# Altium schematic symbol library BJT.SchLib: 1 symbol
Pins are listed as number, name and electrical type; pins without a type are passive.

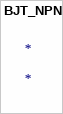
[diagram p0: symbol BJT_NPN]

## BJT_NPN
designator *